# Altium footprint library MKP1848S61010JY5B.PcbLib: 1 footprints
Each footprint in its own frame and in the unit in brackets; x right, y up, seen from the top. Pads: shape width x height; smd on the part's side, far side on the other; paste and mask are expansions set on the pad; w line width, h text height; cw(c..) or ccw(c..) is an arc to the next point about the centre after c.
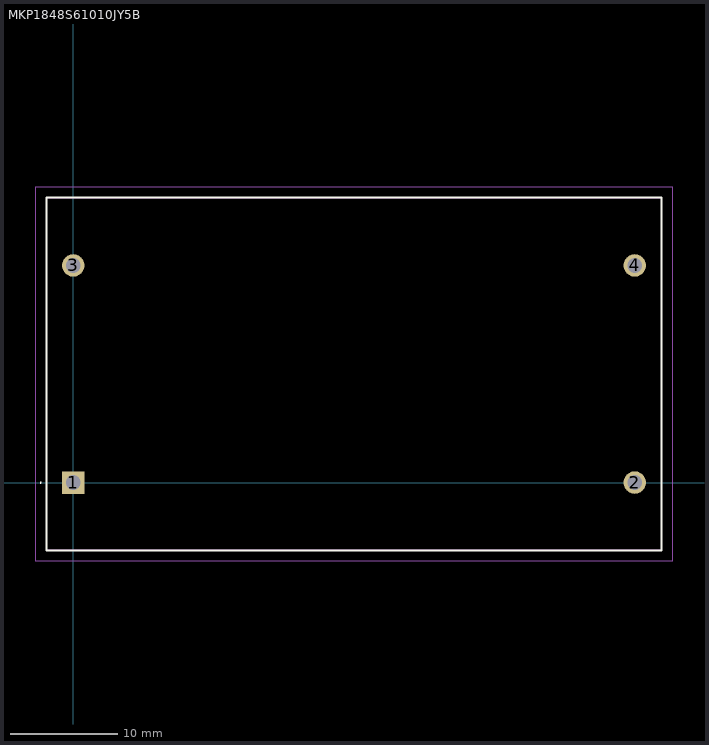
[diagram p0: the footprint, top view; thin cyan lines are the x and y axes]

## MKP1848S61010JY5B [mm]
pads (4):
  rect 2.1x2.1 hole 1.4: 1(0,0)
  round 2.1 hole 1.4: 2(52.5,0) 3(0,20.3) 4(52.5,20.3)
Top Overlay:
  lines w0.1: -3.1,0 cw(c-3.05,0) -3,0 ; -3.1,0 -3.1,0 ; -3.1,0 ccw(c-3.05,0) -3,0 ; -3,0 -3,0
  lines w0.2: -2.5,-6.35 55,-6.35 55,26.65 -2.5,26.65 -2.5,-6.35
Mechanical 15:
  lines w0.1: -2.5,-6.35 55,-6.35 55,26.65 -2.5,26.65 -2.5,-6.35
Mechanical 20:
  lines w0.1: -3.5,-7.35 56,-7.35 56,27.65 -3.5,27.65 -3.5,-7.35